# Altium footprint library 23-pin-te.PcbLib: 1 footprints
Each footprint in its own frame and in the unit in brackets; x right, y up, seen from the top. Pads: shape width x height; smd on the part's side, far side on the other; paste and mask are expansions set on the pad; w line width, h text height; cw(c..) or ccw(c..) is an arc to the next point about the centre after c.
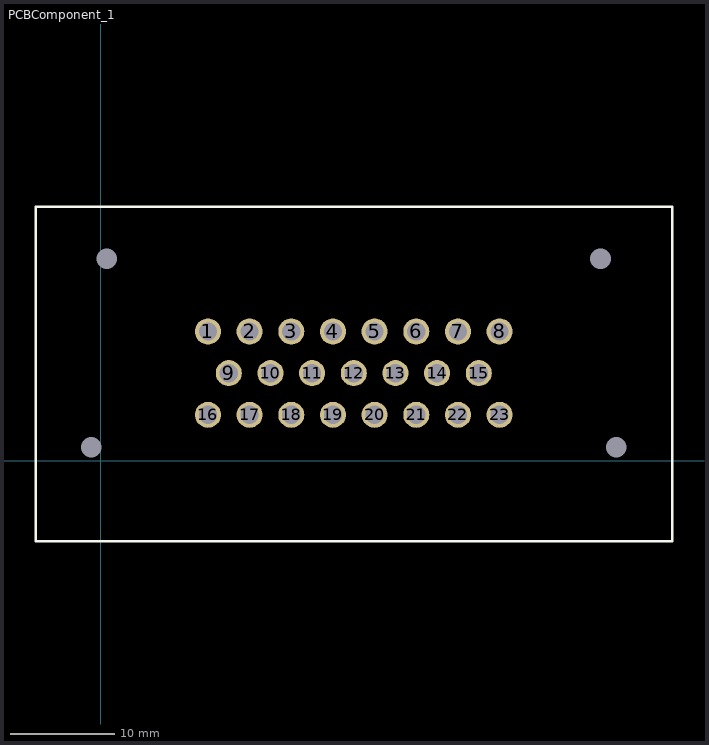
[diagram p0: the footprint, top view; thin cyan lines are the x and y axes]

## PCBComponent_1 [mm]
pads (27):
  round 2.5 hole 1.75: 1(10.3,12.4) 2(14.3,12.4) 3(18.3,12.4) 4(22.3,12.4) 5(26.3,12.4) 6(30.3,12.4) 7(34.3,12.4) 8(38.3,12.4) 9(12.3,8.4) 10(16.3,8.4) 11(20.3,8.4) 12(24.3,8.4) 13(28.3,8.4) 14(32.3,8.4) 15(36.3,8.4) 16(10.3,4.4) 17(14.3,4.4) 18(18.3,4.4) 19(22.3,4.4) 20(26.3,4.4) 21(30.3,4.4) 22(34.3,4.4) 23(38.3,4.4)
  round 0 hole 2: ""(-0.908,1.288) ""(0.592,19.388) ""(47.992,19.388) ""(49.492,1.288)
Top Overlay:
  lines w0.254: -6.223,-7.747 -6.223,24.384 54.864,24.384 54.864,-7.747 -6.223,-7.747
3D body "c-1-776200-1-d3-3d.STEP": height 35, standoff -3.07, extent -6.016,-7.668 54.784,24.432